# EAGLE library part PCIE-EDGE-8LANE-V1 (library SATA-TH-SWM-V2)
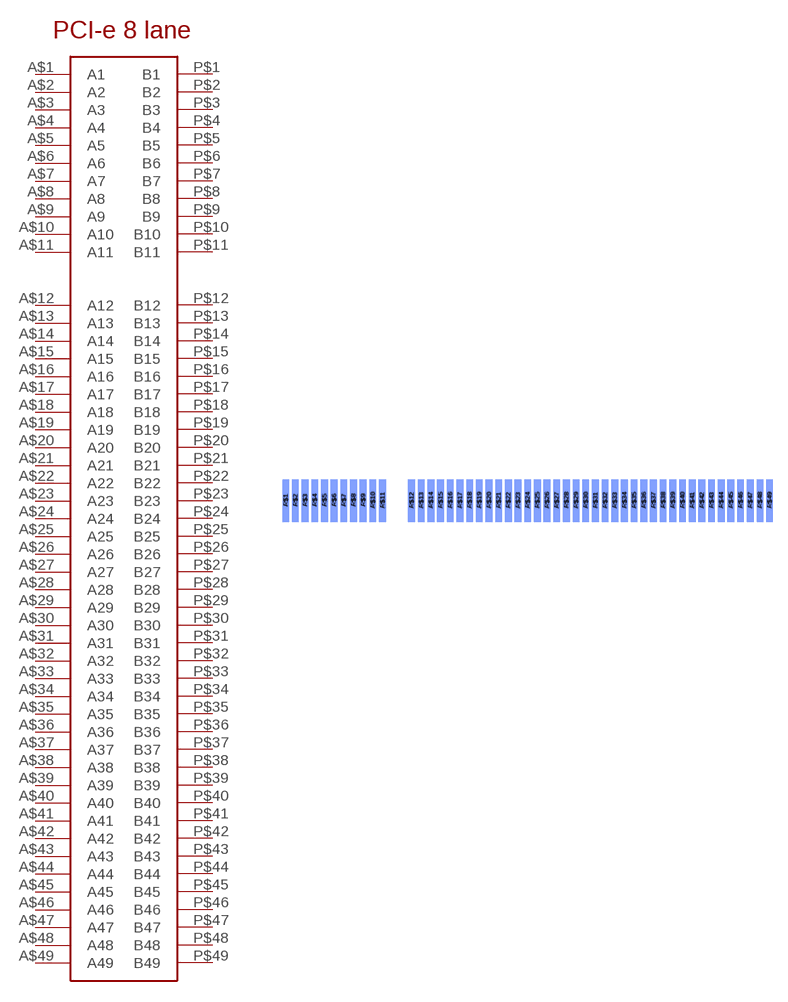
[diagram p0: symbol with the pads of PCIE-EDGE-8LANE-V1; footprint PCIE-EDGE-8LANE-V1]

Designator prefix -

## PCIE-EDGE-8LANE-V1  [PCIE-EDGE-8LANE-V1]
A$1  A1
A$2  A2
A$3  A3
A$4  A4
A$5  A5
A$6  A6
A$7  A7
A$8  A8
A$9  A9
A$10  A10
A$11  A11
A$12  A12
A$13  A13
A$14  A14
A$15  A15
A$16  A16
A$17  A17
A$18  A18
A$19  A19
A$20  A20
A$21  A21
A$22  A22
A$23  A23
A$24  A24
A$25  A25
A$26  A26
A$27  A27
A$28  A28
A$29  A29
A$30  A30
A$31  A31
A$32  A32
A$33  A33
A$34  A34
A$35  A35
A$36  A36
A$37  A37
A$38  A38
A$39  A39
A$40  A40
A$41  A41
A$42  A42
A$43  A43
A$44  A44
A$45  A45
A$46  A46
A$47  A47
A$48  A48
A$49  A49
P$1  B1
P$2  B2
P$3  B3
P$4  B4
P$5  B5
P$6  B6
P$7  B7
P$8  B8
P$9  B9
P$10  B10
P$11  B11
P$12  B12
P$13  B13
P$14  B14
P$15  B15
P$16  B16
P$17  B17
P$18  B18
P$19  B19
P$20  B20
P$21  B21
P$22  B22
P$23  B23
P$24  B24
P$25  B25
P$26  B26
P$27  B27
P$28  B28
P$29  B29
P$30  B30
P$31  B31
P$32  B32
P$33  B33
P$34  B34
P$35  B35
P$36  B36
P$37  B37
P$38  B38
P$39  B39
P$40  B40
P$41  B41
P$42  B42
P$43  B43
P$44  B44
P$45  B45
P$46  B46
P$47  B47
P$48  B48
P$49  B49

## Footprint PCIE-EDGE-8LANE-V1 (pad centres in mm)
PCI-e 8 lane edge connector
smd 0.7 x 4.4 bottom: A$1 -10,-2.2; A$2 -9,-2.2; A$3 -8,-2.2; A$4 -7,-2.2; A$5 -6,-2.2; A$6 -5,-2.2; A$7 -4,-2.2; A$8 -3,-2.2; A$9 -2,-2.2; A$10 -1,-2.2; A$11 0,-2.2; A$12 3,-2.2; A$13 4,-2.2; A$14 5,-2.2; A$15 6,-2.2; A$16 7,-2.2; A$17 8,-2.2; A$18 9,-2.2; A$19 10,-2.2; A$20 11,-2.2; A$21 12,-2.2; A$22 13,-2.2; A$23 14,-2.2; A$24 15,-2.2; A$25 16,-2.2; A$26 17,-2.2; A$27 18,-2.2; A$28 19,-2.2; A$29 20,-2.2; A$30 21,-2.2; A$31 22,-2.2; A$32 23,-2.2; A$33 24,-2.2; A$34 25,-2.2; A$35 26,-2.2; A$36 27,-2.2; A$37 28,-2.2; A$38 29,-2.2; A$39 30,-2.2; A$40 31,-2.2; A$41 32,-2.2; A$42 33,-2.2; A$43 34,-2.2; A$44 35,-2.2; A$45 36,-2.2; A$46 37,-2.2; A$47 38,-2.2; A$48 39,-2.2; A$49 40,-2.2
smd 0.7 x 4.2: P$1 -10,-2.1; P$2 -9,-2.1; P$3 -8,-2.1; P$4 -7,-2.1; P$5 -6,-2.1; P$6 -5,-2.1; P$7 -4,-2.1; P$8 -3,-2.1; P$9 -2,-2.1; P$10 -1,-2.1; P$11 0,-2.1; P$12 3,-2.1; P$13 4,-2.1; P$14 5,-2.1; P$15 6,-2.1; P$16 7,-2.1; P$17 8,-2.1; P$18 9,-2.1; P$19 10,-2.1; P$20 11,-2.1; P$21 12,-2.1; P$22 13,-2.1; P$23 14,-2.1; P$24 15,-2.1; P$25 16,-2.1; P$26 17,-2.1; P$27 18,-2.1; P$28 19,-2.1; P$29 20,-2.1; P$30 21,-2.1; P$31 22,-2.1; P$32 23,-2.1; P$33 24,-2.1; P$34 25,-2.1; P$35 26,-2.1; P$36 27,-2.1; P$37 28,-2.1; P$38 29,-2.1; P$39 30,-2.1; P$40 31,-2.1; P$41 32,-2.1; P$42 33,-2.1; P$43 34,-2.1; P$44 35,-2.1; P$45 36,-2.1; P$46 37,-2.1; P$47 38,-2.1; P$48 39,-2.1; P$49 40,-2.1